# EAGLE library part DRAM-256 (library mb_delay)
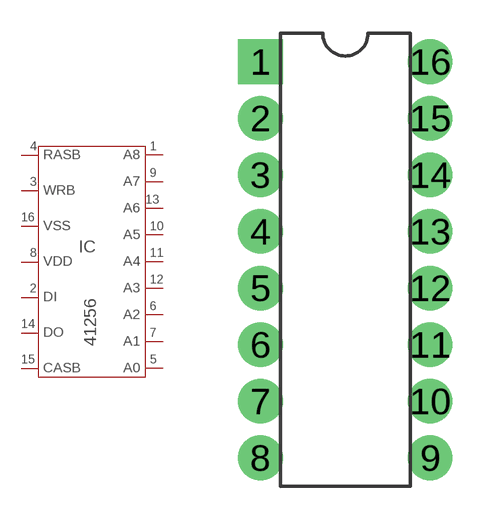
[diagram p5: symbol with the pads of DIL16; footprint DIL16]

Designator prefix IC

## DRAM-256  [DIL16]
1  P$1
2  P$2
3  P$3
4  P$4
5  P$5
6  P$6
7  P$7
8  P$8
9  P$9
10  P$10
11  P$11
12  P$12
13  P$13
14  P$14
15  P$15
16  P$16

## Footprint DIL16 (pad centres in mm)
drill 1 pad 2 square: 1 -3.81,8.89
drill 1 pad 2 round: 2 -3.81,6.35; 3 -3.81,3.81; 4 -3.81,1.27; 5 -3.81,-1.27; 6 -3.81,-3.81; 7 -3.81,-6.35; 8 -3.81,-8.89; 9 3.81,-8.89; 10 3.81,-6.35; 11 3.81,-3.81; 12 3.81,-1.27; 13 3.81,1.27; 14 3.81,3.81; 15 3.81,6.35; 16 3.81,8.89